# Altium footprint library Lib_Cap.PcbLib: 4 footprints
Each footprint in its own frame and in the unit in brackets; x right, y up, seen from the top. Pads: shape width x height; smd on the part's side, far side on the other; paste and mask are expansions set on the pad; w line width, h text height; cw(c..) or ccw(c..) is an arc to the next point about the centre after c.
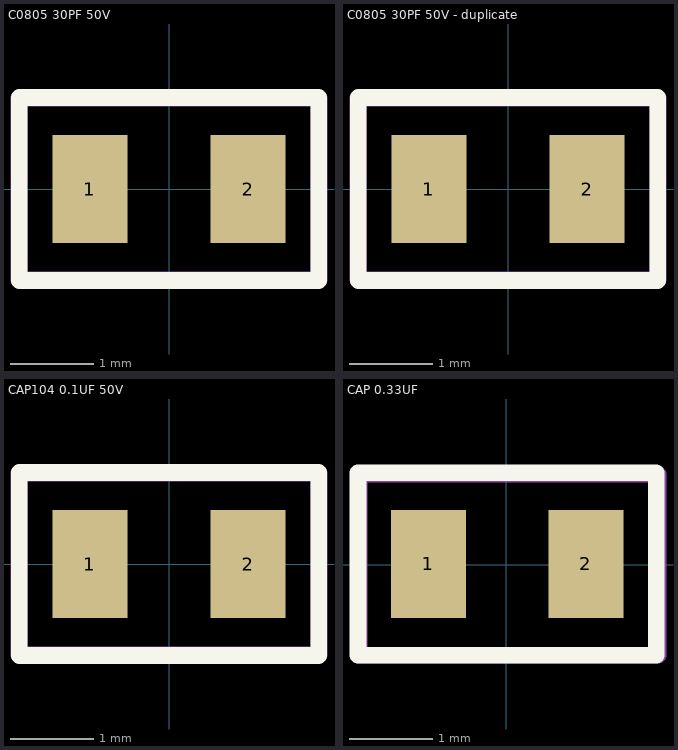
[diagram p0: the footprints below, top view; thin cyan lines are the x and y axes]

## C0805 30PF 50V [mm]
pads (2):
  rect 0.9x1.3 smd: 1(-0.95,0) 2(0.95,0)
Top Overlay:
  lines w0.2: -1.8,-1.1 1.8,-1.1 1.8,1.1 -1.8,1.1 -1.8,-1.1
Mechanical 29:
  lines w0.2: -1.803,-1.092 -1.803,1.092 1.803,1.092 1.803,-1.092 -1.803,-1.092
  text "'.Designator'" at -0.305,-0.432 h0.7
3D body "C0805X300J5GAC7800.step": height 1, standoff 0.02, extent -1.15,-0.775 1.15,0.775

## C0805 30PF 50V - duplicate [mm]
pads (2):
  rect 0.9x1.3 smd: 1(-0.95,0) 2(0.95,0)
Top Overlay:
  lines w0.2: -1.8,-1.1 1.8,-1.1 1.8,1.1 -1.8,1.1 -1.8,-1.1
Mechanical 29:
  lines w0.2: -1.803,-1.092 -1.803,1.092 1.803,1.092 1.803,-1.092 -1.803,-1.092
  text "'.Designator'" at -0.305,-0.432 h0.7
3D body "C0805X300J5GAC7800.step": height 1, standoff 0.02, extent -1.15,-0.775 1.15,0.775

## CAP104 0.1UF 50V [mm] "0.1µF ±10% 50V Ceramic Capacitor X7R 0805 (2012 Metric)"
pads (2):
  rect 0.9x1.3 smd: 1(-0.95,0) 2(0.95,0)
Top Overlay:
  lines w0.2: -1.8,-1.1 -1.8,1.1 1.8,1.1 1.8,-1.1 -1.8,-1.1
Mechanical 29:
  lines w0.2: -1.803,-1.092 1.803,-1.092 1.803,1.092 -1.803,1.092 -1.803,-1.092
  text "'.Designator'" at -0.965,-0.813 h0.7
3D body "C0805C104K5RACTU.step": height 0.88, standoff 0, extent -1.1,-0.725 1.1,0.725

## CAP 0.33UF [mm] "CAP CER 0.33UF 16V Y5V 0805"
pads (2):
  rect 0.9x1.3 smd: 1(-0.94,0.01) 2(0.96,0.01)
Top Overlay:
  lines w0.2: -1.79,-1.09 -1.79,1.11 1.81,1.11 1.81,-1.09 -1.79,-1.09
Mechanical 29:
  lines w0.2: -1.778,-1.092 -1.778,1.092 1.829,1.092 1.829,-1.092 -1.778,-1.092
  text "'.Designator'" at -0.762,-0.61 h0.7
3D body "C0805X300J5GAC7800.step": height 1, standoff 0.02, extent -1.14,-0.765 1.16,0.785